# EAGLE library part LC4032ZE_XXTN48 (library lattice_ispMACH4000ZE)
ispMACH 4032ZE TQFP48 Lattice Semiconductor Corporation - ispMACH 4000ZE Ultra Low Power, Low Cost CPLD Family Generated using Lattice BSDL models: http://www.latticesemi.com/dynamic/index.cfm?fuseaction=view_documents&document_type=36&sloc=01-01-02-01&source=sidebar
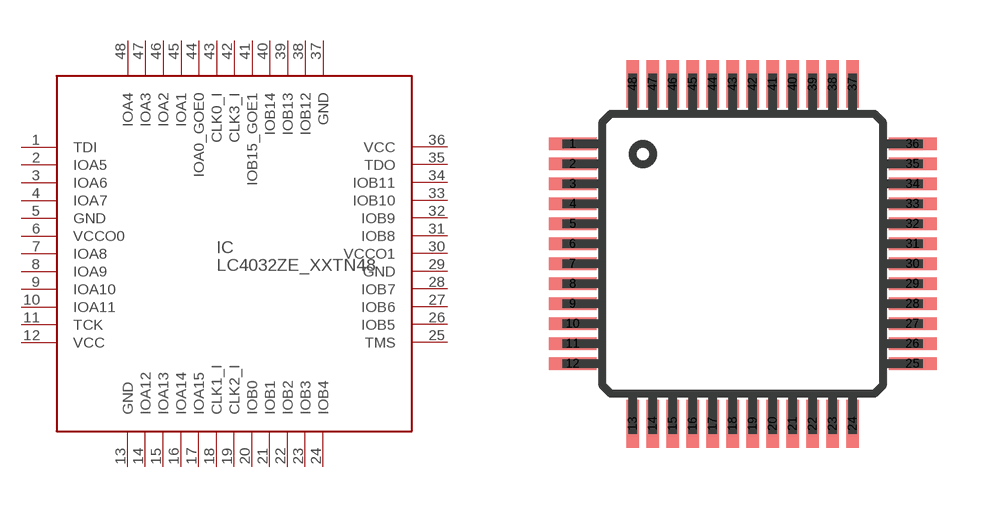
[diagram p0: symbol with the pads of TQFP48; footprint TQFP48]

Designator prefix IC

## LC4032ZE_XXTN48  [TQFP48]
1  TDI  in
2  IOA5
3  IOA6
4  IOA7
5  GND  pwr
6  VCCO0  pwr
7  IOA8
8  IOA9
9  IOA10
10  IOA11
11  TCK  in
12  VCC  pwr
13  GND  pwr
14  IOA12
15  IOA13
16  IOA14
17  IOA15
18  CLK1_I  in
19  CLK2_I  in
20  IOB0
21  IOB1
22  IOB2
23  IOB3
24  IOB4
25  TMS  in
26  IOB5
27  IOB6
28  IOB7
29  GND  pwr
30  VCCO1  pwr
31  IOB8
32  IOB9
33  IOB10
34  IOB11
35  TDO  out
36  VCC  pwr
37  GND  pwr
38  IOB12
39  IOB13
40  IOB14
41  IOB15_GOE1
42  CLK3_I  in
43  CLK0_I  in
44  IOA0_GOE0
45  IOA1
46  IOA2
47  IOA3
48  IOA4

## Footprint TQFP48 (pad centres in mm)
TQFP - 48 http://www.latticesemi.com/lit/docs/package/pkg.pdf
smd 1.2 x 0.32: 1 -4.25,2.75; 2 -4.25,2.25; 3 -4.25,1.75; 4 -4.25,1.25; 5 -4.25,0.75; 6 -4.25,0.25; 7 -4.25,-0.25; 8 -4.25,-0.75; 9 -4.25,-1.25; 10 -4.25,-1.75; 11 -4.25,-2.25; 12 -4.25,-2.75; 25 4.25,-2.75; 26 4.25,-2.25; 27 4.25,-1.75; 28 4.25,-1.25; 29 4.25,-0.75; 30 4.25,-0.25; 31 4.25,0.25; 32 4.25,0.75; 33 4.25,1.25; 34 4.25,1.75; 35 4.25,2.25; 36 4.25,2.75
smd 0.32 x 1.2: 13 -2.75,-4.25; 14 -2.25,-4.25; 15 -1.75,-4.25; 16 -1.25,-4.25; 17 -0.75,-4.25; 18 -0.25,-4.25; 19 0.25,-4.25; 20 0.75,-4.25; 21 1.25,-4.25; 22 1.75,-4.25; 23 2.25,-4.25; 24 2.75,-4.25; 37 2.75,4.25; 38 2.25,4.25; 39 1.75,4.25; 40 1.25,4.25; 41 0.75,4.25; 42 0.25,4.25; 43 -0.25,4.25; 44 -0.75,4.25; 45 -1.25,4.25; 46 -1.75,4.25; 47 -2.25,4.25; 48 -2.75,4.25